# EAGLE library part CP2102N-A02-GQFN24 (library CP2102N-A02-GQFN24)
USB Interface IC USB to UART bridge - QFN24 Source: Datasheet <https://componentsearchengine.com/Datasheets/1/CP2102N-A02-GQFN24.pdf> Check availability <https://pricing.snapeda.com/parts/CP2102N-A02-GQFN24/Silicon%20Labs/view-part?ref=eda>
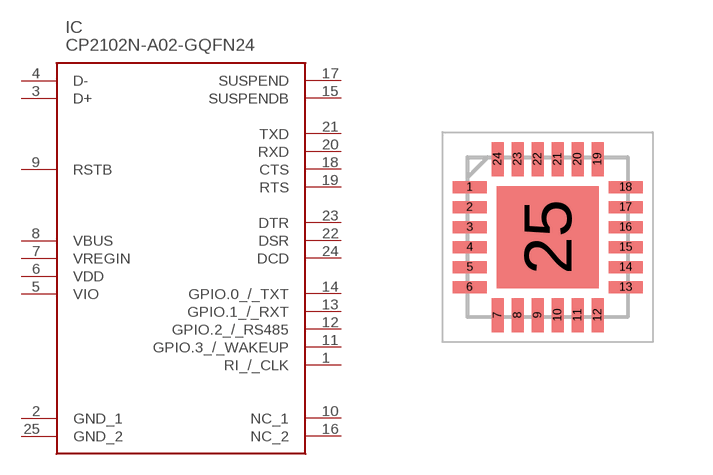
[diagram p0: symbol with the pads of QFN50P400X400X80-25N; footprint QFN50P400X400X80-25N]

Designator prefix IC

## CP2102N-A02-GQFN24 (Availability: In Stock; Description: USB Bridge, USB to UART USB 2.0 UART Interface 24-QFN (4x4); MF: Silicon Labs; MP: CP2102N-A02-GQFN24; Package: WFQFN-24 Silicon Labs; Price: None; Purchase-URL: https://pricing.snapeda.com/search/part/CP2102N-A02-GQFN24/?ref=eda)  [QFN50P400X400X80-25N]
1  RI_/_CLK
2  GND_1  pwr
3  D+
4  D-
5  VIO  pwr
6  VDD  pwr
7  VREGIN  pwr
8  VBUS  pwr
9  RSTB
10  NC_1  nc
11  GPIO.3_/_WAKEUP
12  GPIO.2_/_RS485
13  GPIO.1_/_RXT
14  GPIO.0_/_TXT
15  SUSPENDB  out
16  NC_2  nc
17  SUSPEND  out
18  CTS
19  RTS  out
20  RXD  in
21  TXD  out
22  DSR
23  DTR
24  DCD
25  GND_2  pwr

## Footprint QFN50P400X400X80-25N (pad centres in mm)
QFN24 *
smd 0.85 x 0.3: 1 -1.95,1.25; 2 -1.95,0.75; 3 -1.95,0.25; 4 -1.95,-0.25; 5 -1.95,-0.75; 6 -1.95,-1.25; 13 1.95,-1.25; 14 1.95,-0.75; 15 1.95,-0.25; 16 1.95,0.25; 17 1.95,0.75; 18 1.95,1.25
smd 0.3 x 0.85: 7 -1.25,-1.95; 8 -0.75,-1.95; 9 -0.25,-1.95; 10 0.25,-1.95; 11 0.75,-1.95; 12 1.25,-1.95; 19 1.25,1.95; 20 0.75,1.95; 21 0.25,1.95; 22 -0.25,1.95; 23 -0.75,1.95; 24 -1.25,1.95
smd 2.55 x 2.55: 25 0,0